# EAGLE library part MAX604 (library Mine)
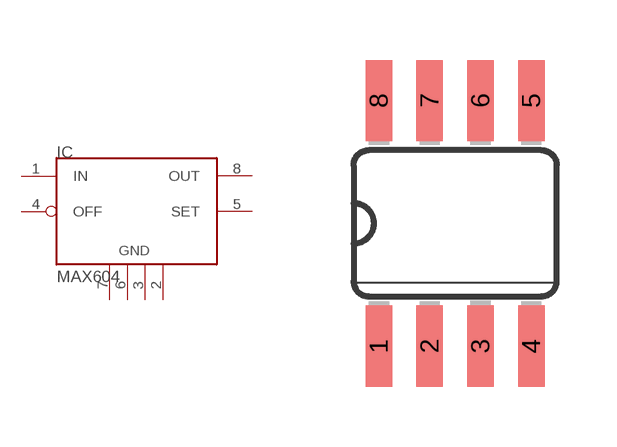
[diagram p19: symbol with the pads of SO08; footprint SO08]

Designator prefix IC

## MAX604  [SO08]
1  IN  in
2  GND4  pwr
3  GND3  pwr
4  OFF  in
5  SET  in
6  GND2  pwr
7  GND1  pwr
8  OUT  out

## Footprint SO08 (pad centres in mm)
Small Outline package 8 150 mil
smd 0.66 x 2.032: 1 -1.905,-3.073; 2 -0.635,-3.073; 3 0.635,-3.073; 4 1.905,-3.073; 5 1.905,3.073; 6 0.635,3.073; 7 -0.635,3.073; 8 -1.905,3.073